# EAGLE library part M54564FP (library M54564P-FP)
M54564FP is an eight-circuit output-sourcing Darlington transistor array. The circuits are made of PNP and NPN transistors. Both the semiconductor integrated circuits perform high-current driving with extremely low input current supply. The M54564P is enclosed in a molded small flat package, enabling space-saving design.
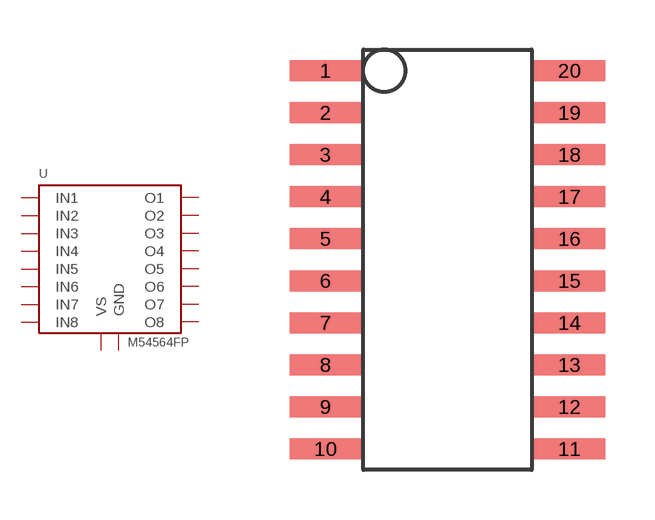
[diagram p1: symbol with the pads of SOP20; footprint SOP20]

Designator prefix -

## M54564FP (MPN: M54564FP)  [SOP20]
2  IN1  in
3  IN2  in
4  IN3  in
5  IN4  in
6  IN5  in
7  IN6  in
8  IN7  in
9  IN8  in
10  VS  pwr
11  GND  pwr
12  O8  out
13  O7  out
14  O6  out
15  O5  out
16  O4  out
17  O3  out
18  O2  out
19  O1  out

## Footprint SOP20 (pad centres in mm)
Small Outline Package
smd 2.159 x 0.635: 1 -3.683,5.715; 2 -3.683,4.445; 3 -3.683,3.175; 4 -3.683,1.905; 5 -3.683,0.635; 6 -3.683,-0.635; 7 -3.683,-1.905; 8 -3.683,-3.175; 9 -3.683,-4.445; 10 -3.683,-5.715; 11 3.683,-5.715; 12 3.683,-4.445; 13 3.683,-3.175; 14 3.683,-1.905; 15 3.683,-0.635; 16 3.683,0.635; 17 3.683,1.905; 18 3.683,3.175; 19 3.683,4.445; 20 3.683,5.715